# EAGLE library part RASPBERRYPISHIELD (library ModernDevice)
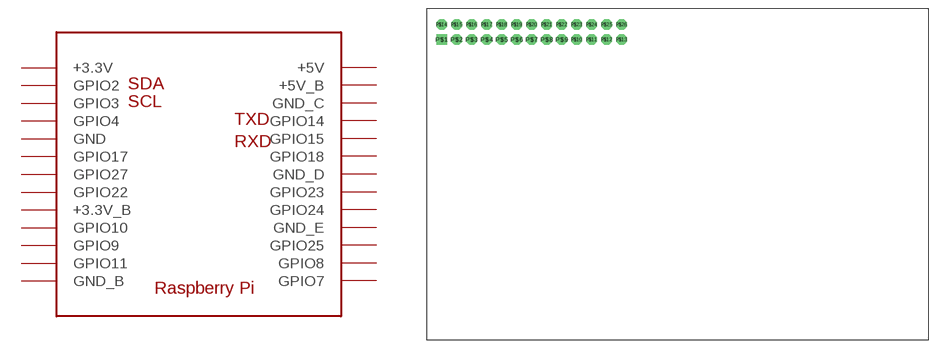
[diagram p1: symbol with the pads of RASPBERRYPISHIELD; footprint RASPBERRYPISHIELD]

Designator prefix -

## RASPBERRYPISHIELD  [RASPBERRYPISHIELD]
P$1  +3.3V
P$2  GPIO2
P$3  GPIO3
P$4  GPIO4
P$5  GND
P$6  GPIO17
P$7  GPIO27
P$8  GPIO22
P$9  +3.3V_B
P$10  GPIO10
P$11  GPIO9
P$12  GPIO11
P$13  GND_B
P$14  +5V
P$15  +5V_B
P$16  GND_C
P$17  GPIO14
P$18  GPIO15
P$19  GPIO18
P$20  GND_D
P$21  GPIO23
P$22  GPIO24
P$23  GND_E
P$24  GPIO25
P$25  GPIO8
P$26  GPIO7

## Footprint RASPBERRYPISHIELD (pad centres in mm)
drill 1.1 pad 1.778 square: P$1 2.54,50.8
drill 1.1 pad 1.778 octagon: P$2 5.08,50.8; P$3 7.62,50.8; P$4 10.16,50.8; P$5 12.7,50.8; P$6 15.24,50.8; P$7 17.78,50.8; P$8 20.32,50.8; P$9 22.86,50.8; P$10 25.4,50.8; P$11 27.94,50.8; P$12 30.48,50.8; P$13 33.02,50.8; P$14 2.54,53.34; P$15 5.08,53.34; P$16 7.62,53.34; P$17 10.16,53.34; P$18 12.7,53.34; P$19 15.24,53.34; P$20 17.78,53.34; P$21 20.32,53.34; P$22 22.86,53.34; P$23 25.4,53.34; P$24 27.94,53.34; P$25 30.48,53.34; P$26 33.02,53.34